# Altium schematic symbol library SPM10040T-2R2M-HZ.SchLib: 1 symbol
Pins are listed as number, name and electrical type; pins without a type are passive.

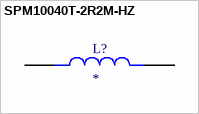
[diagram p0: symbol SPM10040T-2R2M-HZ]

## SPM10040T-2R2M-HZ
designator L?
Inductor Power Shielded Wirewound 2.2uH 20% 100KHz Metal 16.7A 0.00748Ohm DCR Automotive T/R; MF: TDK; MP: SPM10040T-2R2M-HZ; DigiKey_Part_Number: 445-180236-2-ND; Purchase-URL: https://pricing.snapeda.com/search?q=SPM10040T-2R2M-HZ&ref=eda; Package: NON STANDARD-2 TDK; Check_prices: https://www.snapeda.com/parts/SPM10040T-2R2M-HZ/TDK/view-part/?ref=eda; Value: *; SnapEDA_Link: https://www.snapeda.com/parts/SPM10040T-2R2M-HZ/TDK/view-part/?ref=snap
footprint IND_SPM10040T-2R2M-HZ
pins: 1, 2